# Altium schematic symbol library AltiumDesigner.SchLib: 2 symbols
Pins are listed as number, name and electrical type; pins without a type are passive.

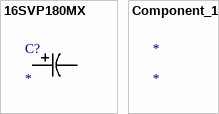
[diagram p0: symbols 16SVP180MX to Component_1]

## 16SVP180MX
designator C?
Imported; Manufacturer_Part_Number: 16SVP180MX; Vendor: Panasonic; Built_By: EMA_UL_Team; Type: DEV; C: Copyright (C) 2015 Accelerated Designs. All rights reserved; RefDes: RefDes; Value: Value
footprint PCAP_SVP_F8
pins: 1, 2

## Component_1
designator *